# Altium footprint library Vishay Draloric Ceramic Tubular Capacitor.PcbLib: 65 footprints (part 2 of 5)
Each footprint in its own frame and in the unit in brackets; x right, y up, seen from the top. Pads: shape width x height; smd on the part's side, far side on the other; paste and mask are expansions set on the pad; w line width, h text height; cw(c..) or ccw(c..) is an arc to the next point about the centre after c.
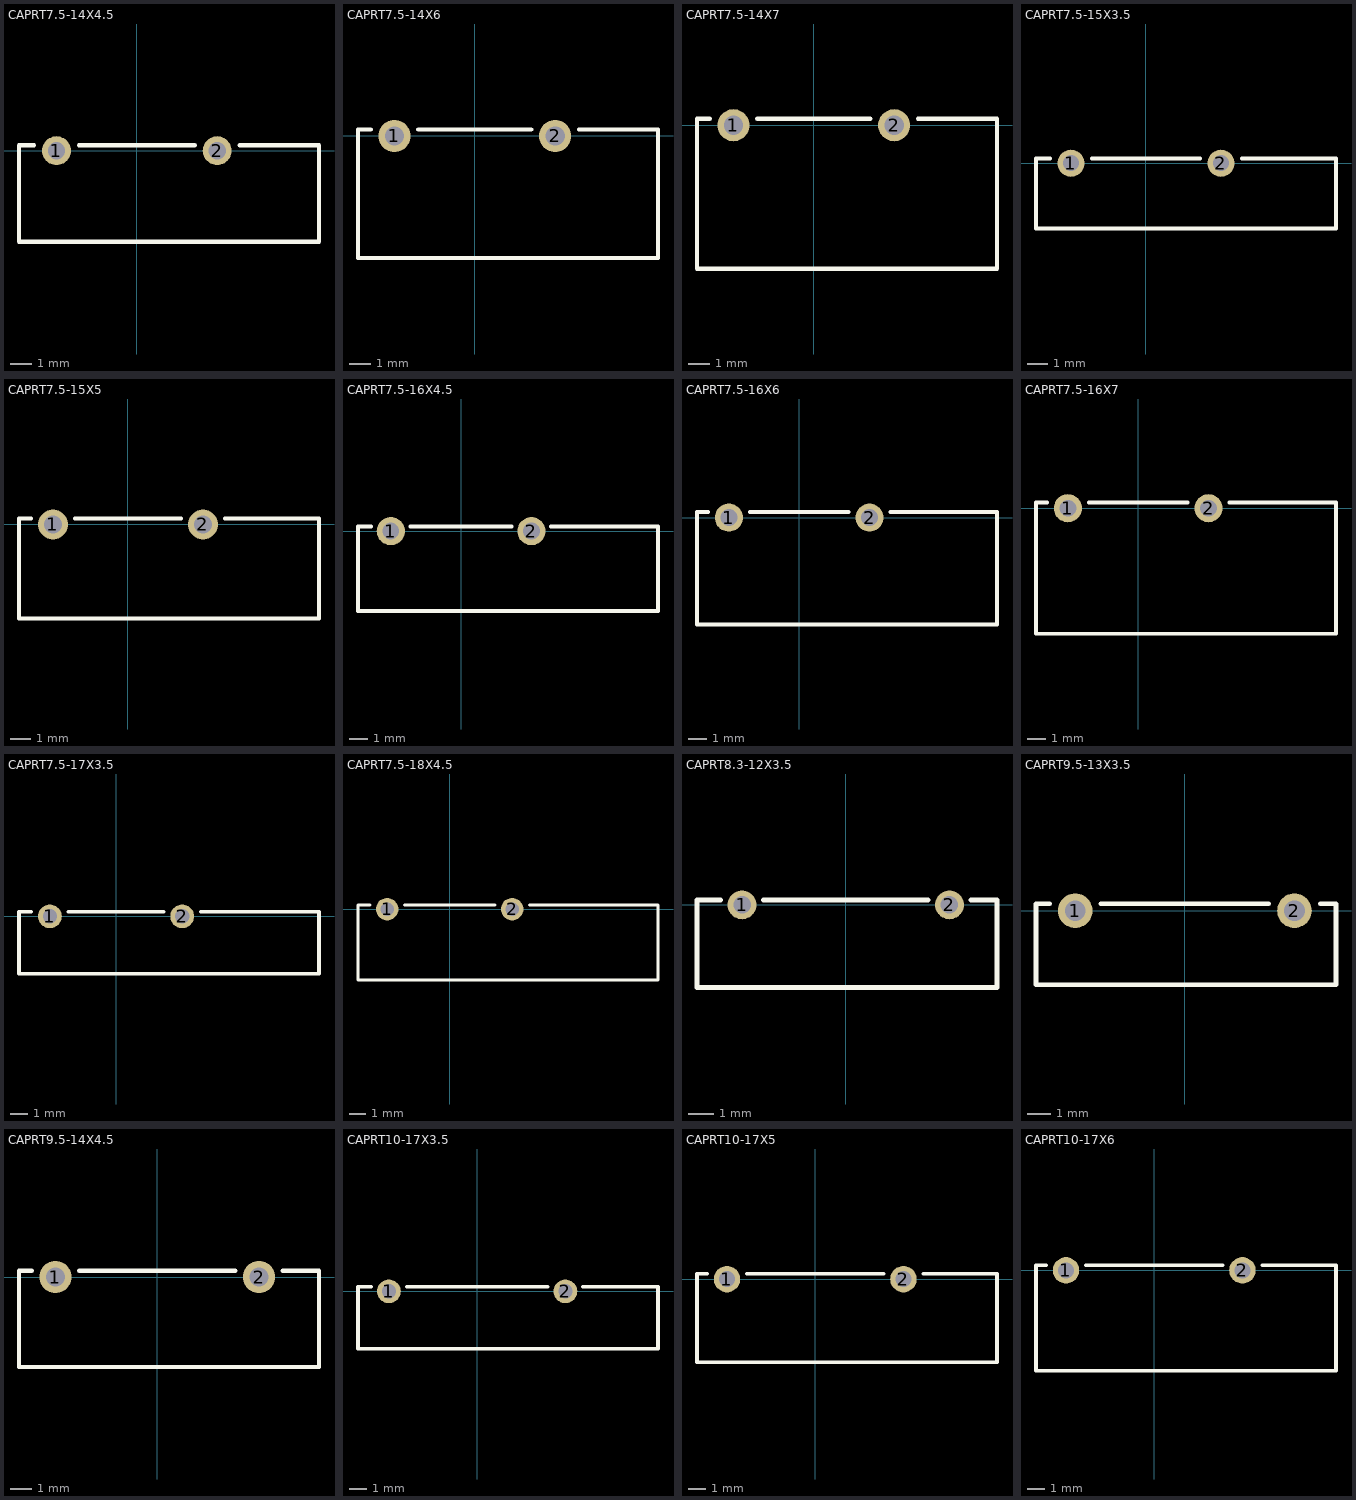
[diagram p1: the footprints below, top view; thin cyan lines are the x and y axes]

## CAPRT7.5-14X4.5 [mm] "Capacitor, Ceramic, Thu-Hole, Tubular; Body 14 x 4.5 mm (LxDia. max) Pin Spacing 7.5 mm (typ)"
height 7.5
pads (2):
  round 1.35 hole 0.8: 1(-3.75,0) 2(3.75,0)
Top Overlay:
  lines w0.2: -4.796,0.25 -5.5,0.25 -5.5,-4.25 8.5,-4.25 8.5,0.25 4.796,0.25 ; -2.704,0.25 2.704,0.25

## CAPRT7.5-14X6 [mm] "Capacitor, Ceramic, Thu-Hole, Tubular; Body 14 x 6 mm (LxDia. max) Pin Spacing 7.5 mm (typ)"
height 9
pads (2):
  round 1.5 hole 0.9: 1(-3.75,0) 2(3.75,0)
Top Overlay:
  lines w0.2: -4.86,0.3 -5.45,0.3 -5.45,-5.7 8.55,-5.7 8.55,0.3 4.86,0.3 ; -2.64,0.3 2.64,0.3

## CAPRT7.5-14X7 [mm] "Capacitor, Ceramic, Thu-Hole, Tubular; Body 14 x 7 mm (LxDia. max) Pin Spacing 7.5 mm (typ)"
height 10
pads (2):
  round 1.5 hole 0.9: 1(-3.75,0) 2(3.75,0)
Top Overlay:
  lines w0.2: -4.86,0.3 -5.45,0.3 -5.45,-6.7 8.55,-6.7 8.55,0.3 4.86,0.3 ; -2.64,0.3 2.64,0.3

## CAPRT7.5-15X3.5 [mm] "Capacitor, Ceramic, Thu-Hole, Tubular; Body 15 x 3.5 mm (LxDia. max) Pin Spacing 7.5 mm (typ)"
height 5.5
pads (2):
  round 1.35 hole 0.8: 1(-3.75,0) 2(3.75,0)
Top Overlay:
  lines w0.2: -4.796,0.25 -5.5,0.25 -5.5,-3.25 9.5,-3.25 9.5,0.25 4.796,0.25 ; -2.704,0.25 2.704,0.25

## CAPRT7.5-15X5 [mm] "Capacitor, Ceramic, Thu-Hole, Tubular; Body 15 x 5 mm (LxDia. max) Pin Spacing 7.5 mm (typ)"
height 7
pads (2):
  round 1.5 hole 0.9: 1(-3.75,0) 2(3.75,0)
Top Overlay:
  lines w0.2: -4.86,0.3 -5.45,0.3 -5.45,-4.7 9.55,-4.7 9.55,0.3 4.86,0.3 ; -2.64,0.3 2.64,0.3

## CAPRT7.5-16X4.5 [mm] "Capacitor, Ceramic, Thu-Hole, Tubular; Body 16 x 4.5 mm (LxDia. max) Pin Spacing 7.5 mm (typ)"
height 7.5
pads (2):
  round 1.5 hole 0.9: 1(-3.75,0) 2(3.75,0)
Top Overlay:
  lines w0.2: -4.796,0.25 -5.5,0.25 -5.5,-4.25 10.5,-4.25 10.5,0.25 4.796,0.25 ; -2.704,0.25 2.704,0.25

## CAPRT7.5-16X6 [mm] "Capacitor, Ceramic, Thu-Hole, Tubular; Body 16 x 6 mm (LxDia. max) Pin Spacing 7.5 mm (typ)"
height 9
pads (2):
  round 1.5 hole 0.9: 1(-3.75,0) 2(3.75,0)
Top Overlay:
  lines w0.2: -4.86,0.3 -5.45,0.3 -5.45,-5.7 10.55,-5.7 10.55,0.3 4.86,0.3 ; -2.64,0.3 2.64,0.3

## CAPRT7.5-16X7 [mm] "Capacitor, Ceramic, Thu-Hole, Tubular; Body 16 x 7 mm (LxDia. max) Pin Spacing 7.5 mm (typ)"
height 10
pads (2):
  round 1.5 hole 0.9: 1(-3.75,0) 2(3.75,0)
Top Overlay:
  lines w0.2: -4.86,0.3 -5.45,0.3 -5.45,-6.7 10.55,-6.7 10.55,0.3 4.86,0.3 ; -2.64,0.3 2.64,0.3

## CAPRT7.5-17X3.5 [mm] "Capacitor, Ceramic, Thu-Hole, Tubular; Body 17 x 3.5 mm (LxDia. max) Pin Spacing 7.5 mm (typ)"
height 5.5
pads (2):
  round 1.35 hole 0.8: 1(-3.75,0) 2(3.75,0)
Top Overlay:
  lines w0.2: -4.796,0.25 -5.5,0.25 -5.5,-3.25 11.5,-3.25 11.5,0.25 4.796,0.25 ; -2.704,0.25 2.704,0.25

## CAPRT7.5-18X4.5 [mm] "Capacitor, Ceramic, Thu-Hole, Tubular; Body 18 x 4.5 mm (LxDia. max) Pin Spacing 7.5 mm (typ)"
height 7.5
pads (2):
  round 1.35 hole 0.8: 1(-3.75,0) 2(3.75,0)
Top Overlay:
  lines w0.2: -4.796,0.25 -5.5,0.25 -5.5,-4.25 12.5,-4.25 12.5,0.25 4.796,0.25 ; -2.704,0.25 2.704,0.25

## CAPRT8.3-12X3.5 [mm] "Capacitor, Ceramic, Thu-Hole, Tubular; Body 12 x 3.5 mm (LxDia. max) Pin Spacing 8.3 mm (typ)"
height 6.5
pads (2):
  round 1.15 hole 0.7: 1(-4.15,0) 2(4.15,0)
Top Overlay:
  lines w0.2: -5.01,0.2 -5.95,0.2 -5.95,-3.3 6.05,-3.3 6.05,0.2 5.01,0.2 ; -3.29,0.2 3.29,0.2

## CAPRT9.5-13X3.5 [mm] "Capacitor, Ceramic, Thu-Hole, Tubular; Body 13 x 3.5 mm (LxDia. max) Pin Spacing 9.5 mm (typ)"
height 5.5
pads (2):
  round 1.5 hole 0.9: 1(-4.75,0) 2(4.75,0)
Top Overlay:
  lines w0.2: -5.86,0.3 -6.45,0.3 -6.45,-3.2 6.55,-3.2 6.55,0.3 5.86,0.3 ; -3.64,0.3 3.64,0.3

## CAPRT9.5-14X4.5 [mm] "Capacitor, Ceramic, Thu-Hole, Tubular; Body 14 x 4.5 mm (LxDia. max) Pin Spacing 9.5 mm (typ)"
height 7.5
pads (2):
  round 1.5 hole 0.9: 1(-4.75,0) 2(4.75,0)
Top Overlay:
  lines w0.2: -5.86,0.3 -6.45,0.3 -6.45,-4.2 7.55,-4.2 7.55,0.3 5.86,0.3 ; -3.64,0.3 3.64,0.3

## CAPRT10-17X3.5 [mm] "Capacitor, Ceramic, Thu-Hole, Tubular; Body 17 x 3.5 mm (LxDia. max) Pin Spacing 10 mm (typ)"
height 5.5
pads (2):
  round 1.35 hole 0.8: 1(-5,0) 2(5,0)
Top Overlay:
  lines w0.2: -6,0.25 -6.75,0.25 -6.75,-3.25 10.25,-3.25 10.25,0.25 6,0.25 ; -4,0.25 4,0.25

## CAPRT10-17X5 [mm] "Capacitor, Ceramic, Thu-Hole, Tubular; Body 17 x 5 mm (LxDia. max) Pin Spacing 10 mm (typ)"
height 7
pads (2):
  round 1.5 hole 0.9: 1(-5,0) 2(5,0)
Top Overlay:
  lines w0.2: -6.11,0.3 -6.7,0.3 -6.7,-4.7 10.3,-4.7 10.3,0.3 6.11,0.3 ; -3.89,0.3 3.89,0.3

## CAPRT10-17X6 [mm] "Capacitor, Ceramic, Thu-Hole, Tubular; Body 17 x 6 mm (LxDia. max) Pin Spacing 10 mm (typ)"
height 8
pads (2):
  round 1.5 hole 0.9: 1(-5,0) 2(5,0)
Top Overlay:
  lines w0.2: -6.11,0.3 -6.7,0.3 -6.7,-5.7 10.3,-5.7 10.3,0.3 6.11,0.3 ; -3.89,0.3 3.89,0.3